# Altium footprint library PCB - CONNECTOR - SULLINS - SULLINS NPPN051BFCN.PCBLIB: 1 footprints
Each footprint in its own frame and in the unit in brackets; x right, y up, seen from the top. Pads: shape width x height; smd on the part's side, far side on the other; paste and mask are expansions set on the pad; w line width, h text height; cw(c..) or ccw(c..) is an arc to the next point about the centre after c.
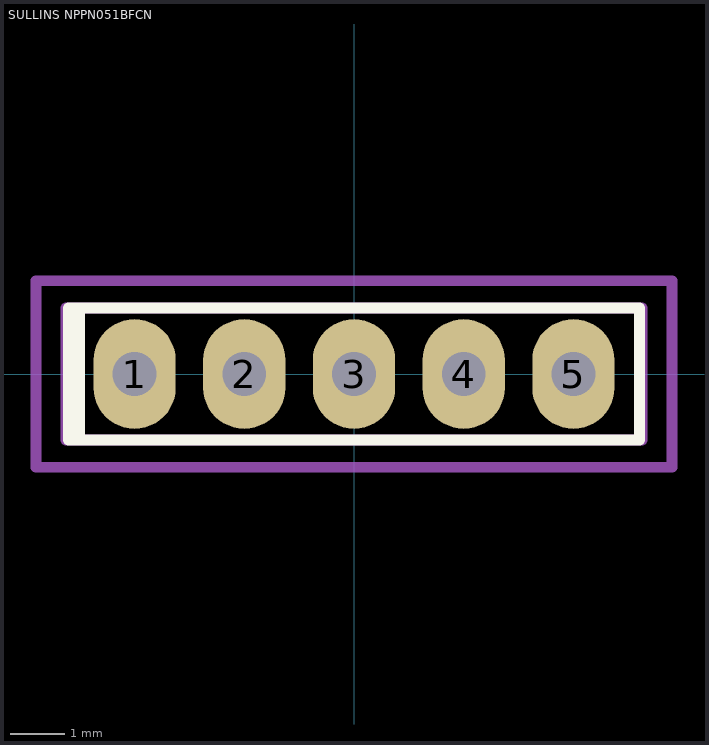
[diagram p0: the footprint, top view; thin cyan lines are the x and y axes]

## SULLINS NPPN051BFCN [mm]
height 4.4
pads (5):
  oval 1.5x2 hole 0.8: 1(-4,0) 2(-2,0) 3(0,0) 4(2,0) 5(4,0)
Top Overlay:
  lines w0.2: -5,-1.2 -5,1.2 ; -5.2,-1.2 -5.2,1.2 5.2,1.2 5.2,-1.2 -5.2,-1.2
Mechanical 1:
  lines w0.2: -5.25,-1.2 -5.25,1.2 5.25,1.2 5.25,-1.2 -5.25,-1.2
Mechanical 15:
  lines w0.2: -0.5,0 0.5,0 ; 0,-0.5 0,0.5 ; -5.8,-1.7 -5.8,1.7 5.8,1.7 5.8,-1.7 -5.8,-1.7
3D body "Sullins NPPN051BFCN-RC.STEP": height 4.41, standoff -2.39, extent -5.25,-1.2 5.25,1.2